# Altium footprint library TE 640457-3.PcbLib: 1 footprints
Each footprint in its own frame and in the unit in brackets; x right, y up, seen from the top. Pads: shape width x height; smd on the part's side, far side on the other; paste and mask are expansions set on the pad; w line width, h text height; cw(c..) or ccw(c..) is an arc to the next point about the centre after c.
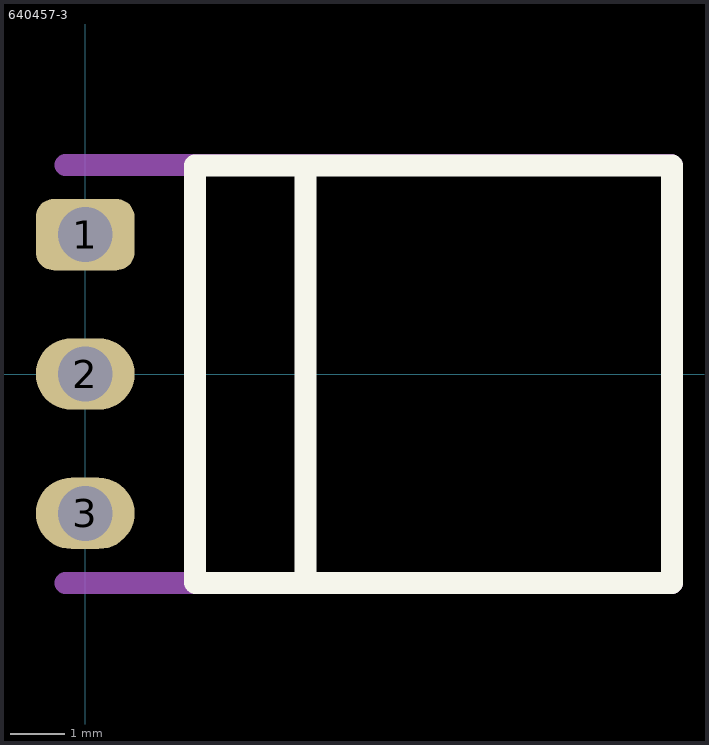
[diagram p0: the footprint, top view; thin cyan lines are the x and y axes]

## 640457-3 [mm]
height 5
pads (3):
  rrect50% 1.8x1.3 hole 1: 1(0,2.54)
  oval 1.8x1.3 hole 1: 2(0,0) 3(0,-2.54)
Top Overlay:
  lines w0.4: 4.013,-3.81 4.013,3.8 ; 2,-3.8 2,3.8 10.693,3.8 10.7,3.793 10.7,-3.803 10.693,-3.81 2.01,-3.81 2,-3.8
Top 3D Body:
  lines w0.4: -0.356,-3.81 10.693,-3.81 10.693,3.8 10.683,3.81 -0.356,3.81
3D body "90f5640_640457-3.stp": height 5.87, standoff -3.52, extent -0.356,-3.81 10.693,3.81